# EAGLE library part LTC3711 (library PowerProducts)
5-Bit Adjustable, Wide Operating Range, No Rsense Step-Down Controller
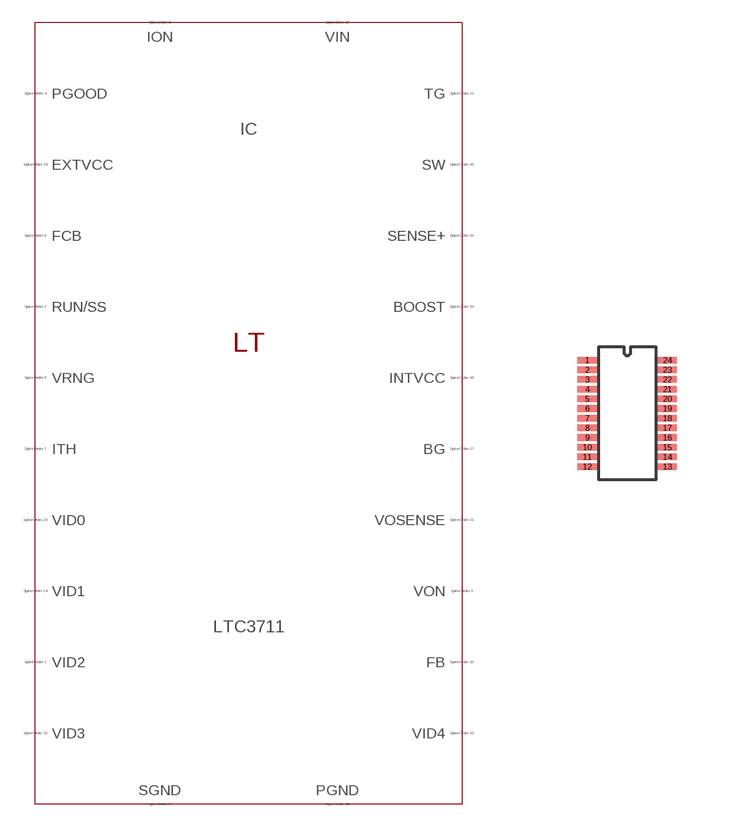
[diagram p289: symbol with the pads of SSOP24(GN); footprint SSOP24(GN)]

Designator prefix IC

## LTC3711 (SPICEMODEL: LTC3711.sub; SPICEPREFIX: X; VALUE2: LTC3711)  [SSOP24(GN)]
1  VID2  pas
2  RUN/SS  pas
3  VON  pas
4  PGOOD  pas
5  VRNG  pas
6  FCB  pas
7  ITH  pas
8  SGND  pas
9  ION  pas
10  FB  pas
11  VOSENSE  pas
12  VID3  pas
13  VID4  pas
14  EXTVCC  pas
15  VIN  pas
16  INTVCC  pas
17  BG  pas
18  PGND  pas
19  SENSE+  pas
20  SW  pas
21  TG  pas
22  BOOST  pas
23  VID0  pas
24  VID1  pas

## Footprint SSOP24(GN) (pad centres in mm)
Package generated from: SSOP24(GN).asc (!PADS-POWERPCB-V5.0-BASIC! DESIGN DATABASE ASCII FILE 1.0) with :import-pads-powerpcb-v5.ulp Version 1.0.1 at 04.10.2012 14:11:39
smd 0.484 x 0.165: 1 -1.002,1.331; 2 -1.002,1.089; 3 -1.002,0.847; 4 -1.002,0.605; 5 -1.002,0.363; 6 -1.002,0.121; 7 -1.002,-0.121; 8 -1.002,-0.363; 9 -1.002,-0.605; 10 -1.002,-0.847; 11 -1.002,-1.089; 12 -1.002,-1.331; 13 1.002,-1.331; 14 1.002,-1.089; 15 1.002,-0.847; 16 1.002,-0.605; 17 1.002,-0.363; 18 1.002,-0.121; 19 1.002,0.121; 20 1.002,0.363; 21 1.002,0.605; 22 1.002,0.847; 23 1.002,1.089; 24 1.002,1.331